# Altium schematic symbol library SCH - POWER - LINEAR VREG - TI TL720M05-Q1PWP_B.SchLib: 1 symbol
Pins are listed as number, name and electrical type; pins without a type are passive.

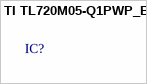
[diagram p0: symbol TI TL720M05-Q1PWP_B]

## TI TL720M05-Q1PWP_B
designator IC?  (value not drawn)